# Altium footprint library SAMTEC_MTSW-106-12-L-S-790.PcbLib: 1 footprints
Each footprint in its own frame and in the unit in brackets; x right, y up, seen from the top. Pads: shape width x height; smd on the part's side, far side on the other; paste and mask are expansions set on the pad; w line width, h text height; cw(c..) or ccw(c..) is an arc to the next point about the centre after c.
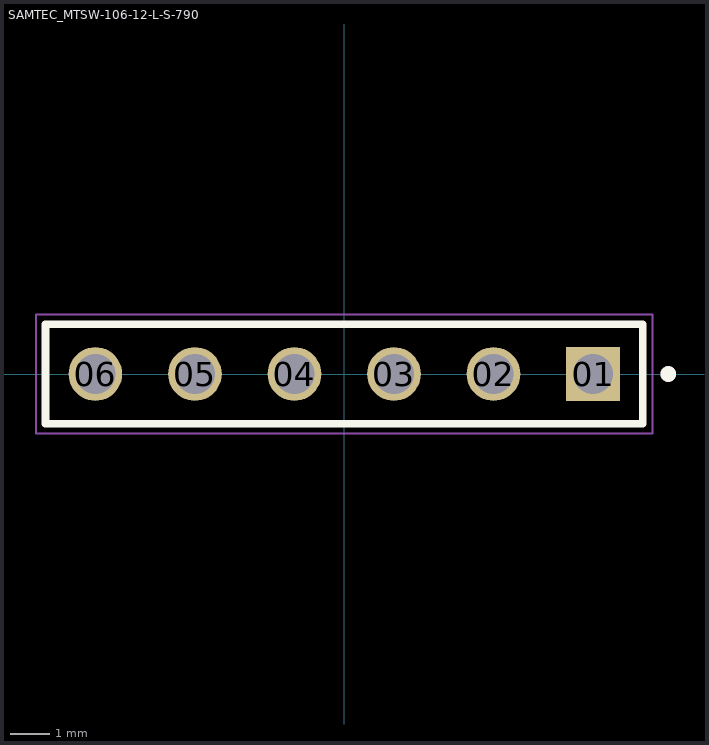
[diagram p0: the footprint, top view; thin cyan lines are the x and y axes]

## SAMTEC_MTSW-106-12-L-S-790 [mm]
pads (6):
  rect 1.37x1.37 / inner round 1.37 / far side rect 1.37x1.37 hole 1.02: 01(6.35,0)
  round 1.37 hole 1.02: 02(3.81,0) 03(1.27,0) 04(-1.27,0) 05(-3.81,0) 06(-6.35,0)
Top Overlay:
  circle w0.2: c8.27,0 r0.1
  lines w0.2: -7.62,-1.27 7.62,-1.27 7.62,1.27 -7.62,1.27 -7.62,-1.27
Mechanical 13:
  circle w0.2: c8.27,0 r0.1
  lines w0.1: -7.62,-1.27 -7.62,1.27 ; -7.62,-1.27 7.62,-1.27 ; -7.62,-1.27 -7.62,1.27 ; -7.62,1.27 7.62,1.27 ; -7.62,1.27 7.62,1.27 ; 7.62,-1.27 7.62,1.27 ; 7.62,-1.27 7.62,1.27
Mechanical 15:
  lines w0.05: -7.87,-1.52 7.87,-1.52 7.87,1.52 -7.87,1.52 -7.87,-1.52
3D body "SSW-106-01-T-S-002.stp": height 8.51, standoff -2.64, extent -7.874,-1.206 7.874,1.206